# Altium integrated library PL133-27GC-R.IntLib: 1 symbol
Pins are listed as number, name and electrical type; pins without a type are passive.

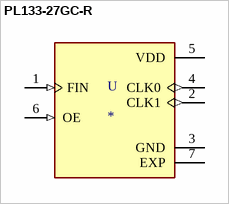
[diagram p0: symbol PL133-27GC-R]

## PL133-27GC-R
designator U
Clock Fanout Buffer _Distribution_ IC 1:2 150MHz 6-UFDFN Exposed Pad; MP: PL133-27GC-R; MF: Microchip; SnapEDA_Link: https://www.snapeda.com/parts/PL133-27GC-R/Microchip/view-part/524694/?ref=snap; Availability: Unavailable; Price: None; Value: *; Package: UFDFN-6 Microchip
footprint SON40P130X200X60-7N
pins: 1 FIN (in), 2 CLK1 (out), 3 GND (power), 4 CLK0 (out), 5 VDD (power), 6 OE (in), 7 EXP (power)